# EAGLE library part MAX31865ATP+T (library other_ic)
MAXIM INTEGRATED PRODUCTS - MAX31865ATP+T - RTD TO DIGITAL CONVERTER, UMAX-8 Source: Datasheet <https://datasheets.maximintegrated.com/en/ds/MAX31865.pdf>
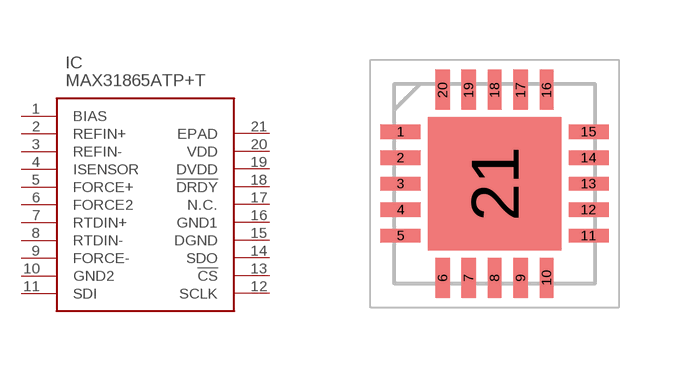
[diagram p3: symbol with the pads of QFN65P500X500X80-21N; footprint QFN65P500X500X80-21N]

Designator prefix IC

## MAX31865ATP+T (DESCRIPTION: MAXIM INTEGRATED PRODUCTS - MAX31865ATP+T - RTD TO DIGITAL CONVERTER, UMAX-8; HEIGHT: 0.8mm; MANUFACTURER_NAME: Maxim Integrated; MANUFACTURER_PART_NUMBER: MAX31865ATP+T; MOUSER_PART_NUMBER: 700-MAX31865ATP+T; MOUSER_PRICE-STOCK: https://www.mouser.co.uk/ProductDetail/Maxim-Integrated/MAX31865ATP%2bT?qs=mIV%2FTjyUFhl0J5LgcLJnSg%3D%3D; RS_PART_NUMBER: 1905480; RS_PRICE-STOCK: http://uk.rs-online.com/web/p/products/1905480)  [QFN65P500X500X80-21N]
1  BIAS
2  REFIN+
3  REFIN-
4  ISENSOR
5  FORCE+
6  FORCE2
7  RTDIN+
8  RTDIN-
9  FORCE-
10  GND2
11  SDI
12  SCLK
13  !CS
14  SDO
15  DGND
16  GND1
17  N.C.  nc
18  !DRDY
19  DVDD
20  VDD
21  EPAD

## Footprint QFN65P500X500X80-21N (pad centres in mm)
TQFN20
smd 1 x 0.35: 1 -2.35,1.3; 2 -2.35,0.65; 3 -2.35,0; 4 -2.35,-0.65; 5 -2.35,-1.3; 11 2.35,-1.3; 12 2.35,-0.65; 13 2.35,0; 14 2.35,0.65; 15 2.35,1.3
smd 0.35 x 1: 6 -1.3,-2.35; 7 -0.65,-2.35; 8 0,-2.35; 9 0.65,-2.35; 10 1.3,-2.35; 16 1.3,2.35; 17 0.65,2.35; 18 0,2.35; 19 -0.65,2.35; 20 -1.3,2.35
smd 3.35 x 3.35: 21 0,0